# Altium schematic symbol library 2021-07-09_12-34-11.SchLib: 2 symbols
Pins are listed as number, name and electrical type; pins without a type are passive.

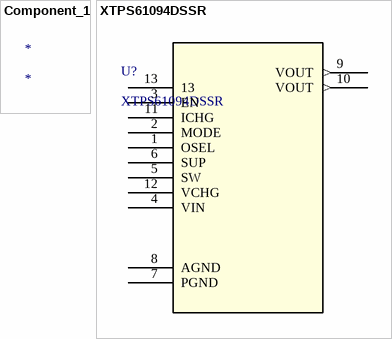
[diagram p0: symbols Component_1 to XTPS61094DSSR]

## Component_1
designator *

## XTPS61094DSSR
designator U?
No Description Available; SourceLibrary: Add_to_database_2021-03-17; Built_By: EMA_Matt; Vendor: Texas Instruments; Datasheet: https://www.ti.com/lit/ds/symlink/tps61094.pdf?ts=1615883226162; Manufacturer_Part_Number: XTPS61094DSSR; Copyright: Copyright (C) 2018 Accelerated Designs. All rights reserved; RefDes: RefDes; Type: DEV
footprint WSON_94DSSR_TEX-L
pins: 1 OSEL, 2 MODE, 3 EN, 4 VIN, 5 SW, 6 SUP, 7 PGND, 8 AGND, 9 VOUT (out), 10 VOUT (out), 11 ICHG, 12 VCHG, 13